# EAGLE library part WAVECARD (library paparazzi)
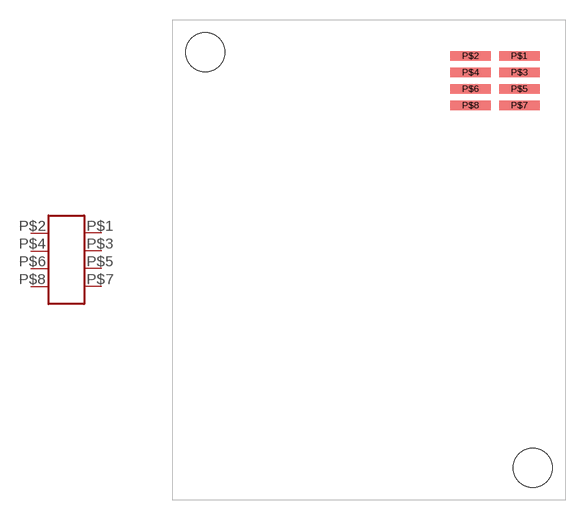
[diagram p18: symbol with the pads of WAVECARD; footprint WAVECARD]

Designator prefix -

## WAVECARD  [WAVECARD]
P$1  P$2
P$2  P$1
P$3  P$4
P$4  P$3
P$5  P$6
P$6  P$5
P$7  P$8
P$8  P$7

## Footprint WAVECARD (pad centres in mm)
smd 3.124 x 0.737: P$1 26.68,-2.795; P$2 22.92,-2.795; P$3 26.68,-4.065; P$4 22.92,-4.065; P$5 26.68,-5.335; P$6 22.92,-5.335; P$7 26.68,-6.605; P$8 22.92,-6.605
hole 3 at 2.5,-2.5
hole 3 at 27.7,-34.5